# Altium footprint library Relay.PcbLib: 10 footprints
Each footprint in its own frame and in the unit in brackets; x right, y up, seen from the top. Pads: shape width x height; smd on the part's side, far side on the other; paste and mask are expansions set on the pad; w line width, h text height; cw(c..) or ccw(c..) is an arc to the next point about the centre after c.
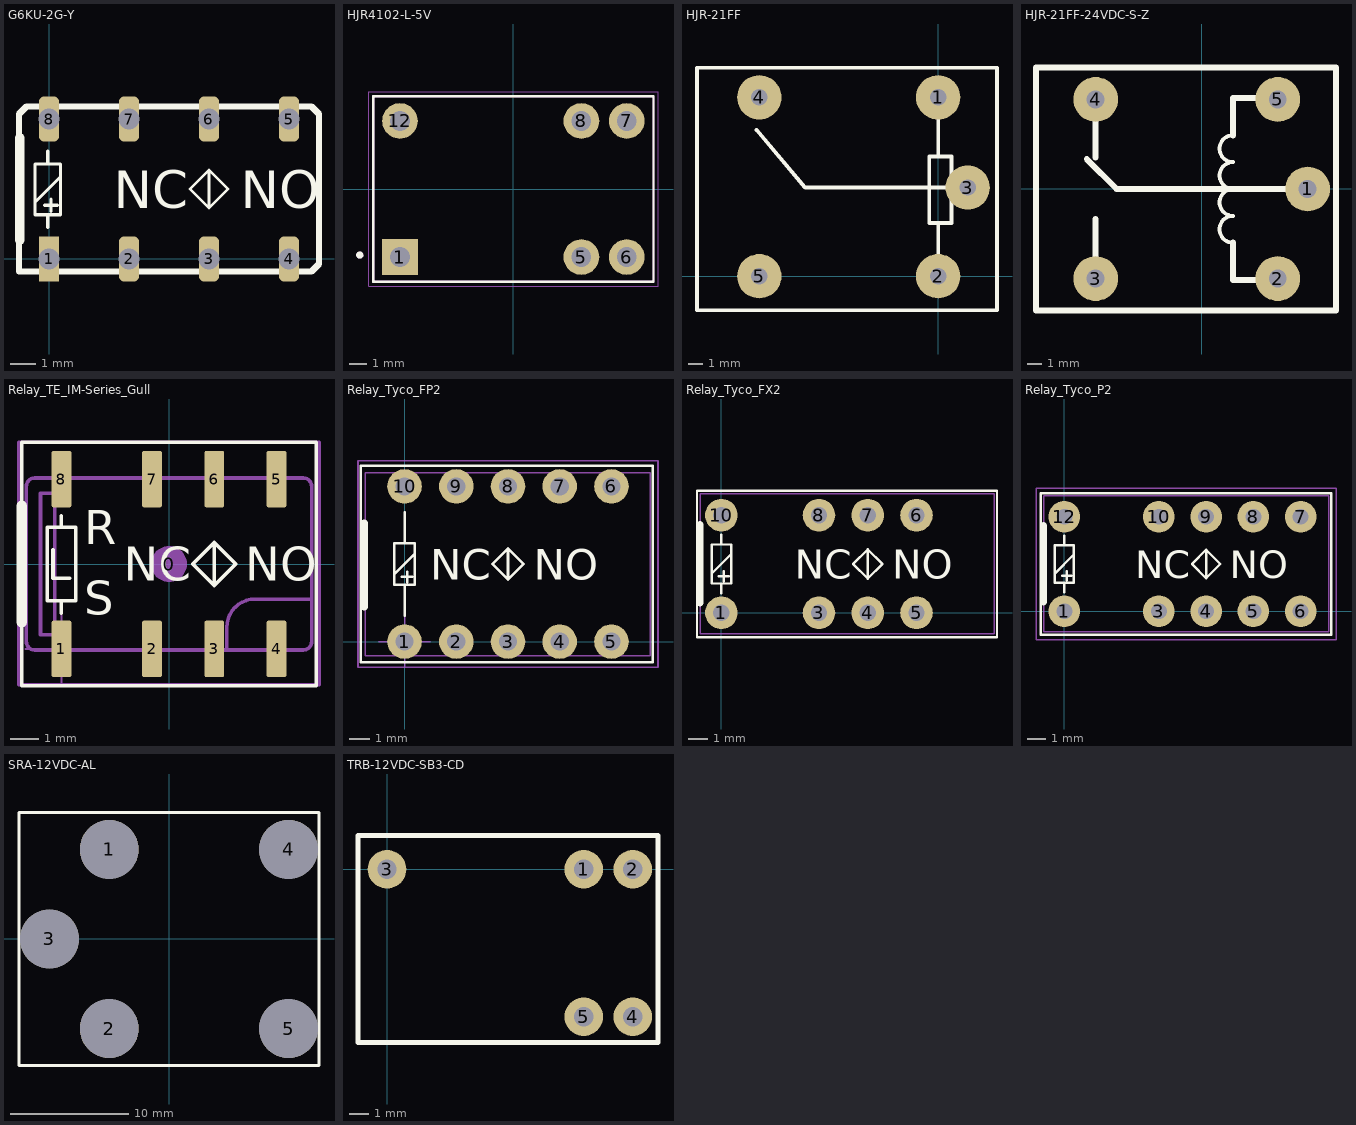
[diagram p0: the footprints below, top view; thin cyan lines are the x and y axes]

## G6KU-2G-Y [mm]
height 10.7
pads (8):
  rect 0.8x1.8 hole 0.85: 1(0,0)
  rrect50% 0.8x1.8 hole 0.85: 2(3.2,0) 3(6.4,0) 4(9.6,0) 5(9.6,5.6) 6(6.4,5.6) 7(3.2,5.6) 8(0,5.6)
Top Overlay:
  lines w0.127: -0.558,2.276 0.458,3.292 ; -0.177,2.149 0.331,2.149 ; -0.05,1.26 -0.05,1.768 ; -0.05,3.8 -0.05,4.308 ; 0.077,1.895 0.077,2.403 ; 6.4,2.038 7.162,2.8 6.4,3.562 ; 6.4,2.038 6.4,3.562 ; 6.4,2.038 5.638,2.8 6.4,3.562 ; -0.558,1.768 -0.558,3.8 0.458,3.8 0.458,1.768 -0.558,1.768
  lines w0.254: 0,6.1 -0.9,6.1 ; -0.9,6.1 10.5,6.1 10.8,5.8 10.8,-0.2 10.5,-0.5 0,-0.5 -1.2,-0.5 -1.2,5.8 -0.9,6.1
  lines w0.381: -1.168,0.752 -1.168,4.841
  text "NO" at 7.67,2.038 h1.5
  text "NC" at 2.59,2.038 h1.5

## HJR4102-L-5V [mm]
pads (6):
  rect 2x2 hole 1.1: 1(-6.35,-3.81)
  round 2 hole 1.1: 5(3.81,-3.81) 6(6.35,-3.81) 7(6.35,3.81) 8(3.81,3.81) 12(-6.35,3.81)
Top Overlay:
  lines w0.127: -7.85,-5.2 7.85,-5.2 7.85,5.2 -7.85,5.2 -7.85,-5.2
  lines w0.2: -8.529,-3.629 ccw(c-8.6,-3.7) -8.5,-3.7
Mechanical 13:
  circle w0.2: c-8.6,-3.7 r0.1
  lines w0.127: -7.85,-5.2 7.85,-5.2 7.85,5.2 -7.85,5.2 -7.85,-5.2
Mechanical 15:
  lines w0.05: -8.1,-5.45 8.1,-5.45 8.1,5.45 -8.1,5.45 -8.1,-5.45
3D body: height 11.6, standoff 0, extent -7.87,-5.2 7.85,5.222

## HJR-21FF [mm] "24V, 20A,"
height 14
pads (5):
  round 3 hole 1.1: 1(0,12.1) 2(0,0) 3(2,6) 4(-12.1,12.1) 5(-12.1,0)
Top Overlay:
  lines w0.254: -12.3,9.9 -9,6 2,6 ; 0,0 0,3.6 ; 0,12.1 0,8.1 ; 0,8.1 0.9,8.1 0.9,3.6 -0.6,3.6 -0.6,8.1 0,8.1 ; -16.318,-2.3 3.982,-2.3 3.982,14.1 -16.318,14.1 -16.318,-2.3
3D body "User Library-Tianbo Relay ( HJR-3FF-S-Z).step": height 15.51, standoff -2.2, extent -15.672,-1.806 3.328,13.694

## HJR-21FF-24VDC-S-Z [mm]
pads (5):
  round 3 hole 1.2: 1(7.1,0) 2(5.1,-6) 3(-7.1,-6) 4(-7.1,6) 5(5.1,6)
Top Overlay:
  lines w0.254: 2.098,-3.6 cw(c2.098,-2.7) 2.098,-1.8 cw(c2.098,-0.9) 2.098,0 ; 2.1,0 cw(c2.1,0.9) 2.1,1.8 cw(c2.1,2.7) 2.1,3.6
  lines w0.4: -7.7,2 -5.7,0 7.1,0 ; -7.1,-6 -7.1,-2 ; -7.1,2.1 -7.1,6 ; 2.1,-3.6 2.1,-6.1 3.6,-6.1 ; 2.1,3.6 2.1,6.1 3.6,6.1 ; -11.1,-8.15 -11.1,8.15 9,8.15 9,-8.15 -11.1,-8.15
3D body "User Library-Tianbo Relay ( HJR-3FF-S-Z).step": height 15.51, standoff -2.2, extent -10.5,-7.75 8.5,7.75

## Relay_TE_IM-Series_Gull [mm] "TE Connectivity IM48DGR latching relay, gullwing SMD"
height 5.65
pads (9):
  round 1.27 on Mech15: 0(0,0)
  rrect20% 0.7x2 smd: 1(-3.8,-3) 2(-0.6,-3) 3(1.6,-3) 4(3.8,-3) 5(3.8,3) 6(1.6,3) 7(-0.6,3) 8(-3.8,3)
Top Overlay:
  lines w0.127: -4.1,0.5 -4.1,-0.5 -3.5,-0.5 ; -3.8,-1.73 -3.8,-1.3 ; -3.8,1.3 -3.8,1.7 ; 1.6,-0.762 0.838,0 1.6,0.762 ; 1.6,-0.762 1.6,0.762 ; 1.6,-0.762 2.362,0 1.6,0.762 ; -5.2,-4.3 -5.2,4.3 5.2,4.3 5.2,-4.3 -5.2,-4.3 ; -4.308,-1.3 -3.292,-1.3 -3.292,1.3 -4.308,1.3 -4.308,-1.3
  lines w0.381: -5.2,-2.045 -5.2,2.045
  text "S" at -3,-1.8 h1.2
  text "R" at -3,0.7 h1.2
  text "NC" at -1.6,-0.6 h1.2
  text "NO" at 2.7,-0.6 h1.2
Mechanical 13:
  lines w0.127: -4,-3.04 -4,-3.755 -3.6,-3.755 -3.6,-3.04 ; -4,3.04 -4,3.755 -3.6,3.755 -3.6,3.04 ; -0.8,-3.04 -0.8,-3.755 -0.4,-3.755 -0.4,-3.04 ; -0.8,3.04 -0.8,3.755 -0.4,3.755 -0.4,3.04 ; 1.4,-3.04 1.4,-3.755 1.8,-3.755 1.8,-3.04 ; 1.4,3.04 1.4,3.755 1.8,3.755 1.8,3.04 ; 2.04,-3.04 2.04,-2.24 cw(c3.04,-2.24) 3.04,-1.24 5.04,-1.24 ; 3.6,-3.04 3.6,-3.755 4,-3.755 4,-3.04 ; 3.6,3.04 3.6,3.755 4,3.755 4,3.04 ; -5.04,-2.74 ccw(c-4.74,-2.74) -4.74,-3.04 4.74,-3.04 ccw(c4.74,-2.74) 5.04,-2.74 5.04,2.74 ccw(c4.74,2.74) 4.74,3.04 -4.74,3.04 ccw(c-4.74,2.74) -5.04,2.74 -5.04,-2.74 ; -4.54,-2.5 -4.04,-2.5 -4.04,2.5 -4.54,2.5 -4.54,-2.5
Mechanical 15:
  lines w0.076: -5.07,-3 -2.53,-3 ; -3.8,-4.27 -3.8,-1.73
  lines w0.127: -5.3,-4.27 5.3,-4.27 5.3,4.3 -5.3,4.3 -5.3,-4.27
3D body "RELAY TE IM Series gull wing.STEP": height 5.65, standoff 0, extent -5.04,-3.755 5.04,3.755

## Relay_Tyco_FP2 [mm] "Tyco FP2 DPDT 5VDC Relay"
height 5.1
pads (10):
  round 1.7 hole 0.889: 1(0,0) 2(2.54,0) 3(5.08,0) 4(7.62,0) 5(10.16,0) 6(10.16,7.62) 7(7.62,7.62) 8(5.08,7.62) 9(2.54,7.62) 10(0,7.62)
Top Overlay:
  lines w0.127: -0.508,3.302 0.508,4.318 ; -0.127,3.175 0.381,3.175 ; 0,1.27 0,2.794 ; 0,4.826 0,6.35 ; 0.127,2.921 0.127,3.429 ; 5.08,3.048 5.842,3.81 5.08,4.572 ; 5.08,3.048 5.08,4.572 ; 5.08,3.048 4.318,3.81 5.08,4.572 ; -2.159,-1.016 12.192,-1.016 12.192,8.636 -2.159,8.636 -2.159,-1.016 ; -0.508,2.794 -0.508,4.826 0.508,4.826 0.508,2.794 -0.508,2.794
  lines w0.381: -1.981,1.727 -1.981,5.817
  text "NO" at 6.35,3.048 h1.5
  text "NC" at 1.27,3.048 h1.5
Mechanical 13:
  lines w0.076: -1.93,-0.7 -1.93,8.3 12.07,8.3 12.07,-0.7 -1.93,-0.7
Mechanical 15:
  lines w0.076: -1.27,0 1.27,0 ; 0,-1.27 0,1.27 ; -2.286,-1.27 -2.286,8.89 12.446,8.89 12.446,-1.27 -2.286,-1.27
3D body: height 5, standoff 0.3, extent -1.93,-0.7 12.07,8.3

## Relay_Tyco_FX2 [mm] "Tyco FX2 DPDT 5VDC Relay"
height 10.7
pads (8):
  round 1.7 hole 0.85: 1(0,0) 3(5.08,0) 4(7.62,0) 5(10.16,0) 6(10.16,5.08) 7(7.62,5.08) 8(5.08,5.08) 10(0,5.08)
Top Overlay:
  lines w0.127: -0.508,2.032 0.508,3.048 ; -0.127,1.905 0.381,1.905 ; 0,1.016 0,1.524 ; 0,3.556 0,4.064 ; 0.127,1.651 0.127,2.159 ; 7.62,1.778 8.382,2.54 7.62,3.302 ; 7.62,1.778 7.62,3.302 ; 7.62,1.778 6.858,2.54 7.62,3.302 ; -1.27,-1.27 14.351,-1.27 14.351,6.35 -1.27,6.35 -1.27,-1.27 ; -0.508,1.524 -0.508,3.556 0.508,3.556 0.508,1.524 -0.508,1.524
  lines w0.381: -1.118,0.508 -1.118,4.597
  text "NO" at 8.89,1.778 h1.5
  text "NC" at 3.81,1.778 h1.5
Mechanical 13:
  lines w0.076: -1.1,-1.1 14.2,-1.1 14.2,6.2 -1.1,6.2 -1.1,-1.1
3D body: height 10.7, standoff 0, extent -1.1,-1.1 14.2,6.2

## Relay_Tyco_P2 [mm] "Tyco P2 DPDT 5VDC V23079 Relay"
height 10
pads (10):
  round 1.7 hole 0.85: 1(0,0) 3(5.08,0) 4(7.62,0) 5(10.16,0) 6(12.7,0) 7(12.7,5.08) 8(10.16,5.08) 9(7.62,5.08) 10(5.08,5.08) 12(0,5.08)
Top Overlay:
  lines w0.127: -0.508,2.032 0.508,3.048 ; -0.127,1.905 0.381,1.905 ; 0,1.016 0,1.524 ; 0,3.556 0,4.064 ; 0.127,1.651 0.127,2.159 ; 7.62,1.778 8.382,2.54 7.62,3.302 ; 7.62,1.778 7.62,3.302 ; 7.62,1.778 6.858,2.54 7.62,3.302 ; -1.27,-1.27 14.351,-1.27 14.351,6.35 -1.27,6.35 -1.27,-1.27 ; -0.508,1.524 -0.508,3.556 0.508,3.556 0.508,1.524 -0.508,1.524
  lines w0.381: -1.118,0.508 -1.118,4.597
  text "NO" at 8.89,1.778 h1.5
  text "NC" at 3.81,1.778 h1.5
Mechanical 13:
  lines w0.076: -1.1,-1.1 14.2,-1.1 14.2,6.2 -1.1,6.2 -1.1,-1.1
Mechanical 15:
  lines w0.076: -0.762,0 0.762,0 ; 0,-0.762 0,0.762 ; -1.524,-1.524 14.6,-1.524 14.6,6.604 -1.524,6.604 -1.524,-1.524
3D body: height 10.7, standoff 0, extent -1.1,-1.1 14.2,6.2
3D body "c-1393788-3-a5-3d.stp": height 9.82, standoff -0.58, extent -0.9,-1.14 13.6,6.26

## SRA-12VDC-AL [mm] "12V, 20A,"
height 14
pads (5):
  round 5 hole 5: 1(-5.08,7.62) 2(-5.08,-7.62) 3(-10.16,0) 4(10.16,7.62) 5(10.16,-7.62)
Top Overlay:
  lines w0.254: -12.75,-10.75 12.75,-10.75 12.75,10.75 -12.75,10.75 -12.75,-10.75

## TRB-12VDC-SB3-CD [mm] "Ðåëå - Êîíôèã: 1C; Uêàòóøêè: 12 Â; AC-DC: DC; Póïð(max): 360 ìÂò; Iêîìì: 3 À; UDC: 30 Â"
height 11.8
pads (5):
  round 2 hole 1: 1(10.16,0) 2(12.7,0) 3(0,0) 4(12.7,-7.62) 5(10.16,-7.62)
Top Overlay:
  lines w0.254: -1.5,-8.95 -1.5,1.75 14,1.75 14,-8.95 -1.5,-8.95
3D body "User Library-TRBS_Relay.step": height 11.5, standoff -3.3, extent -1.402,-9.376 14.102,1.726